# Altium schematic symbol library CMod5_1.SCHLIB: 236 symbols (part 5 of 5)
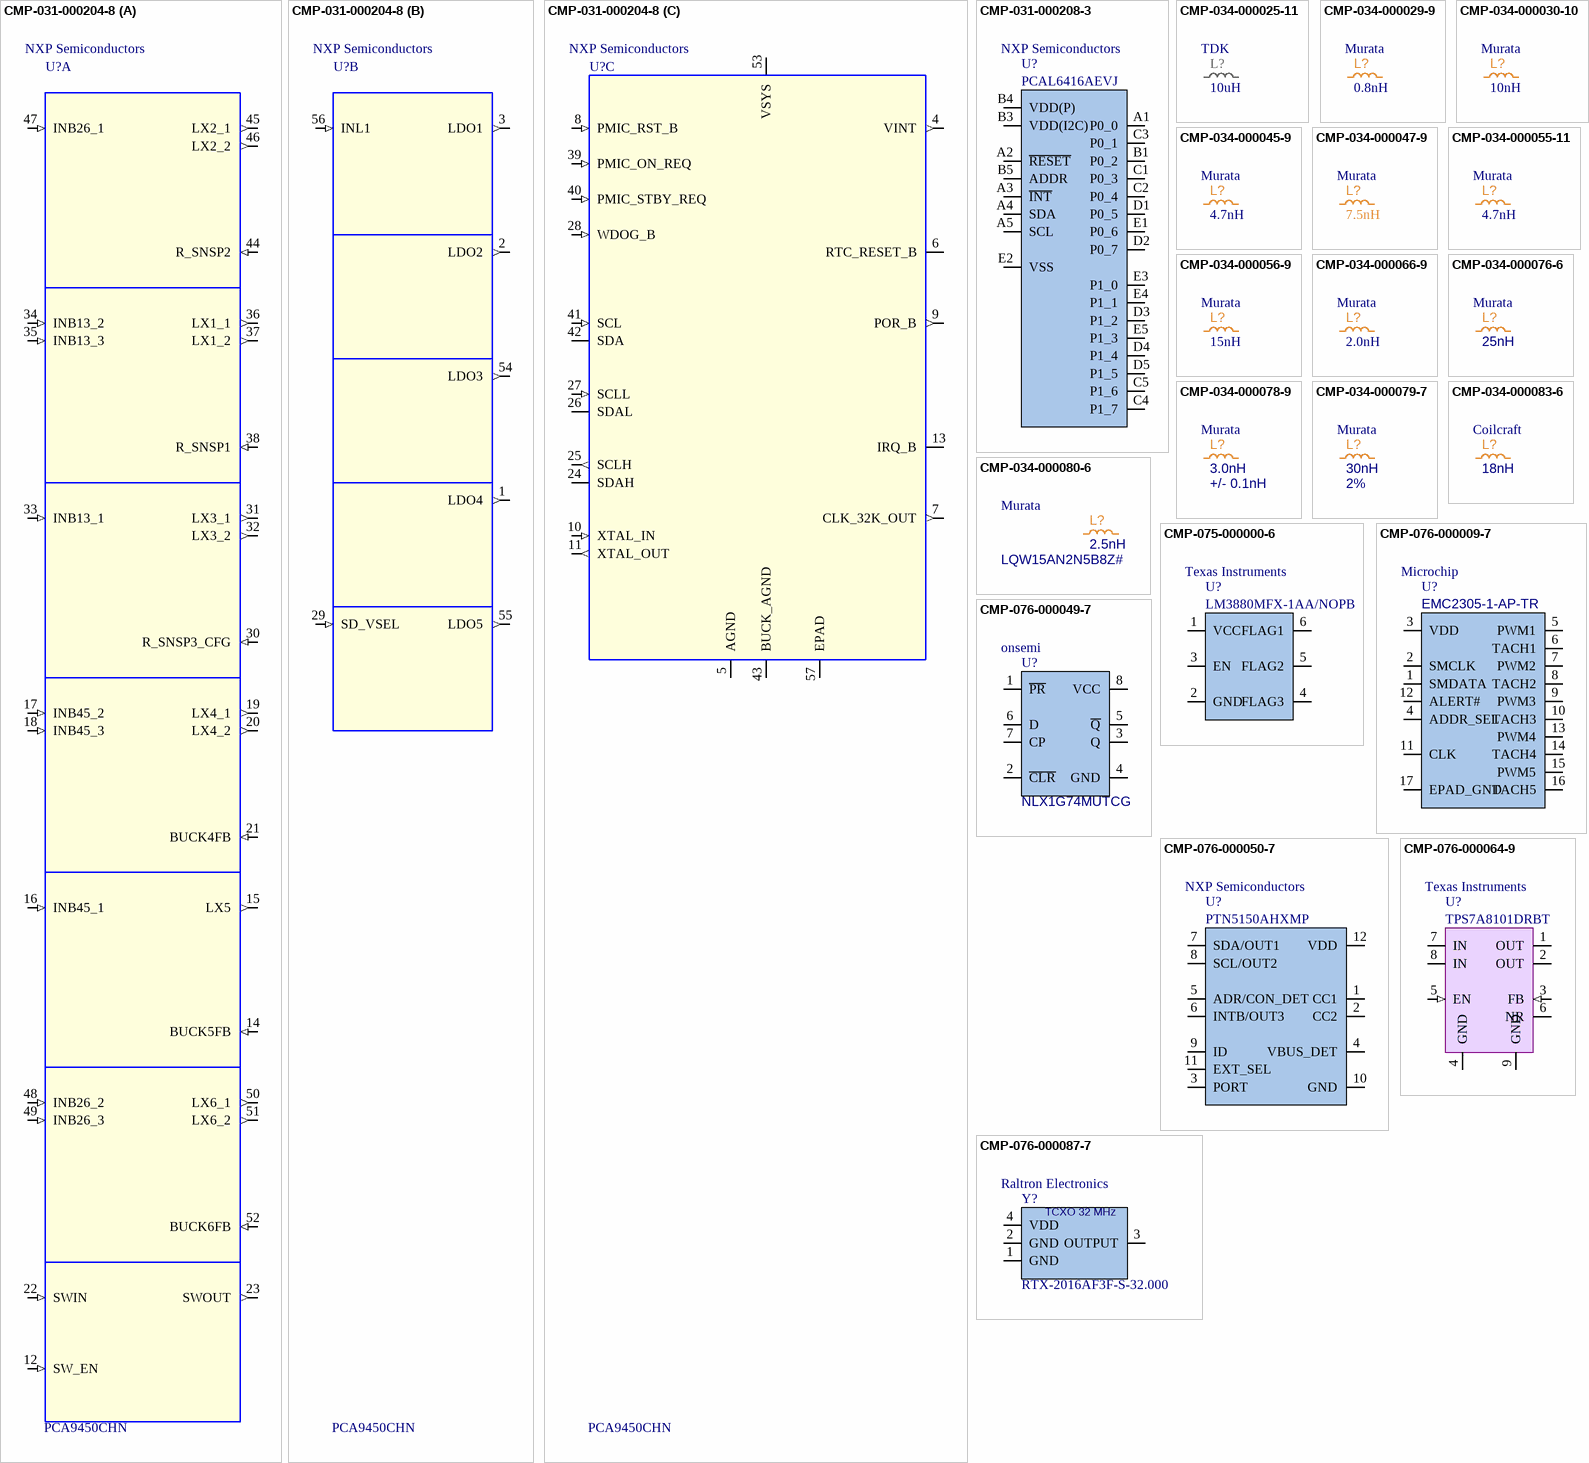
[diagram p16: symbols CMP-031-000204-8 to CMP-076-000087-7]

## CMP-034-000030-10
designator L?, comment value 10nH  Manufacturer: Murata  (hidden comment: IND_0201_10n_RF_MATCHING)
IND_RF_MATCHING; Part Number: LQP03TN10NH02; Manufacturer Part Number: LQP03TN10NH02D; Tolerance: +/- 3%; Remark: RF matching, use part number; HasBeenBuilt: TBD; System: RLC; Sort order: 206; Package: 0201; ComponentLink2Description: 2_Product page; ComponentLink3Description: 3_X-information; Creation date: 20200101; Source: RLC_UN1Q.SchLib; ComponentLink1Description: 1_Datasheet; Operating temperature range: -55°C ~ 125°C; ComponentLink4Description: 4_X-information; ClassName: SMALL; RoHS: RoHS3; Component Type: Inductor
footprint IND_0201_UN1Q (Chip Resistor, 0.6x0.3mm, IPC High Density)
pins: 1, 2

## CMP-034-000045-9
designator L?, comment value 4.7nH  Manufacturer: Murata  (hidden comment: IND_0201_4n7_RF_MATCHING)
IND_RF_MATCHING; Part Number: LQP03TN4N7J02; Manufacturer Part Number: LQP03TN4N7J02D; Tolerance: +/- 5%; Remark: RF matching, use part number; Sort order: 206; HasBeenBuilt: TBD; System: RLC; Package: 0201; Operating temperature range: -55°C ~ 125°C; ClassName: SMALL; ComponentLink1Description: 1_Datasheet; ComponentLink2Description: 2_Product page; Creation date: 20200101; ComponentLink3Description: 3_X-information; ComponentLink4Description: 4_X-information; RoHS: RoHS3; Source: RLC_UN1Q.SchLib; Component Type: Inductor
footprint IND_0201_UN1Q (Chip Resistor, 0.6x0.3mm, IPC High Density)
pins: 1, 2

## CMP-034-000047-9
designator L?, comment 7.5nH  Manufacturer: Murata
IND_RF_MATCHING; Part Number: LQP03TN7N5H02; Tolerance: +/- 5%; HasBeenBuilt: TBD; System: RLC; Remark: RF matching, use part number; Sort order: 206; Creation date: 20220613; ClassName: SMALL; ComponentLink4Description: 4_X-information; Package: 0201; ComponentLink2Description: 2_Product page; ComponentLink3Description: 3_X-information; RoHS: RoHS3; Source: RLC_UN1Q.SchLib; Operating temperature range: -55°C ~ 125°C; ComponentLink1Description: 1_Datasheet; Value: 7.5nH; Manufacturer Part Number: LQP03TN7N5H02; Component Type: Inductor
footprint IND_0201_UN1Q (Chip Resistor, 0.6x0.3mm, IPC High Density)
pins: 1, 2

## CMP-034-000055-11
designator L?, comment value 4.7nH  Manufacturer: Murata  (hidden comment: IND_0402_4n7_RF_MATCHING)
IND_RF_MATCHING; Part Number: LQP02TN4N7H02#; HasBeenBuilt: TBD; System: RLC; Remark: RF matching, use part number; Sort order: 206; Tolerance: +/- 3%; ComponentLink3Description: 3_X-information; Operating temperature range: -55 ... +125C; ComponentLink1Description: 1_Datasheet; Package: 0402; ComponentLink2Description: 2_Product page; ComponentLink4Description: 4_X-information; Source: RLC_UN1Q.SchLib; ClassName: SMALL; RoHS: RoHS3; Creation date: 20210913; Manufacturer Part Number: LQP02TN4N7H02#; Component Type: Inductor
footprint IND_0402_UN1Q (Chip Resistor, 1.0x0.5mm)
pins: 1, 2

## CMP-034-000056-9
designator L?, comment value 15nH  Manufacturer: Murata  (hidden comment: IND_0201_15n0_RF_MATCHING)
IND_RF_MATCHING; Part Number: LQP03TG15NH02; Manufacturer Part Number: LQP03TG15NH02D; Tolerance: +/- 3%; Remark: RF matching, use part number; Sort order: 206; HasBeenBuilt: TBD; System: RLC; Package: 0201; Operating temperature range: -55°C ~ 125°C; ClassName: SMALL; ComponentLink1Description: 1_Datasheet; ComponentLink2Description: 2_Product page; Creation date: 20200101; ComponentLink3Description: 3_X-information; ComponentLink4Description: 4_X-information; Source: RLC_UN1Q.SchLib; RoHS: RoHS3; Component Type: Inductor
footprint IND_0201_UN1Q (Chip Resistor, 0.6x0.3mm, IPC High Density)
pins: 1, 2

## CMP-034-000066-9
designator L?, comment value 2.0nH  Manufacturer: Murata  (hidden comment: IND_0201_2n0_HQ_RF_MATCHING)
IND_RF_MATCHING; Part Number: LQP03HQ2N0B02; Manufacturer Part Number: LQP03HQ2N0B02D; HasBeenBuilt: TBD; Remark: RF matching, use part number; Tolerance: +/- 0.1nH; Sort order: 206; System: RLC; Source: RLC_UN1Q.SchLib; Package: 0201; Creation date: 20200101; ComponentLink4Description: 4_X-information; ComponentLink1Description: 1_Datasheet; RoHS: RoHS3; ClassName: SMALL; Operating temperature range: -55 ... +125C; ComponentLink2Description: 2_Product page; ComponentLink3Description: 3_X-information; Component Type: Inductor
footprint IND_0201_UN1Q (Chip Resistor, 0.6x0.3mm, IPC High Density)
pins: 1, 2

## CMP-034-000076-6
designator L?, comment value 25nH  Manufacturer: Murata  (hidden comment: IND_0402_25n_RF_MATCHING)
IND_RF_MATCHING; Part Number: LQW15AN25NG8Z; Manufacturer Part Number: LQW15AN25NG8ZD; Tolerance: 2%; Remark: RF matching, use part number; System: RLC; Sort order: 206; Package: 0402; ComponentLink2Description: 2_Product page; ComponentLink3Description: 3_X-information; Creation date: 20240627; ComponentLink1Description: 1_Datasheet; ComponentLink1URL: ttps://www.murata.com/en-global/products/productdetail?partno=LQW15AN25NG8Z%23; Operating temperature range: -55 ... +125C; ClassName: SMALL; ComponentLink4Description: 4_X-information; RoHS: RoHS3; Component Type: Inductor
footprint IND_0402_UN1Q (Chip Resistor, 1.0x0.5mm)
pins: 1, 2

## CMP-034-000078-9
designator L?, comment value 3.0nH  Tolerance: +/- 0.1nH  Manufacturer: Murata  (hidden comment: IND_0402_3n0_RF_MATCHING)
IND_RF_MATCHING, WIREWOUND; Part Number: LQW15AN3N0G80; Manufacturer Part Number: LQW15AN3N0B8ZD; HasBeenBuilt: TBD; Sort order: 206; Remark: RF matching, use part number; System: RLC; ComponentLink3Description: 3_X-information; ComponentLink1URL: https://www.murata.com/en-global/products/productdetail?partno=LQW15AN3N0G80%23; Creation date: 20231024; Source: RLC_UN1Q.SchLib; ComponentLink1Description: 1_Datasheet; Package: 0402; ComponentLink2Description: 2_Product page; Dimensions WxLxH: 0.7 x 1.1 x 0.6mm; Operating temperature range: -55 ... +125C; ClassName: SMALL; ComponentLink4Description: 4_X-information; ECCN: EAR99; RoHS: RoHS3; Component Type: Inductor
footprint IND_0402_UN1Q (Chip Resistor, 1.0x0.5mm)
pins: 1, 2

## CMP-034-000079-7
designator L?, comment value 30nH  Tolerance: 2%  Manufacturer: Murata  (hidden comment: IND_0402_30n_RF_MATCHING)
IND_RF_MATCHING; Part Number: LQW15AN30NG8Z; Manufacturer Part Number: LQW15AN30NG8ZD; Sort order: 206; Remark: RF matching, use part number; System: RLC; ComponentLink3Description: 3_X-information; ComponentLink1URL: ttps://www.murata.com/en-global/products/productdetail?partno=LQW15AN25NG8Z%23; Creation date: 20240627; ComponentLink1Description: 1_Datasheet; Package: 0402; ComponentLink2Description: 2_Product page; Operating temperature range: -55 ... +125C; ClassName: SMALL; ComponentLink4Description: 4_X-information; RoHS: RoHS3; Component Type: Inductor
footprint IND_0402_UN1Q (Chip Resistor, 1.0x0.5mm)
pins: 1, 2

## CMP-034-000080-6
designator L?, comment value 2.5nH  Part Number: LQW15AN2N5B8Z#  Manufacturer: Murata  (hidden comment: IND_0402_2n5_RF_MATCHING)
IND_RF_MATCHING, WIREWOUND; Manufacturer Part Number: LQW15AN2N5B8ZD; Tolerance: +/- 0.1nH; Remark: RF matching, use part number; HasBeenBuilt: TBD; System: RLC; Sort order: 206; Package: 0402; ComponentLink2Description: 2_Product page; ComponentLink3Description: 3_X-information; Creation date: 20231024; Source: RLC_UN1Q.SchLib; ComponentLink1Description: 1_Datasheet; ComponentLink1URL: https://www.mouser.fi/datasheet/2/281/1/JELF243A_9138-1699493.pdf; Operating temperature range: -55 ... +125C; ClassName: SMALL; ComponentLink4Description: 4_X-information; RoHS: RoHS3; Component Type: Inductor
footprint IND_0402_UN1Q (Chip Resistor, 1.0x0.5mm)
pins: 1, 2

## CMP-034-000083-6
designator L?, comment value 18nH  Manufacturer: Coilcraft  (hidden comment: IND_0402_18n_RF_MATCHING_Coilcraft)
IND_RF_MATCHING; Part Number: 0402DC-18NXGRW; Tolerance: 2%; Remark: RF matching, use part number; System: RLC; Sort order: 206; Package: 0402; ComponentLink2Description: 2_Product page; ComponentLink3Description: 3_X-information; Creation date: 20240830; ComponentLink1Description: 1_Datasheet; ComponentLink1URL: https://www.coilcraft.com/getmedia/b3553702-9a56-4386-b513-fcddf8709240/0402dc.pdf; ComponentLink2URL: https://www.coilcraft.com/en-us/products/rf/ceramic-core-chip-inductors/0402-(1005)/0402dc/0402dc-18n/; Operating temperature range: -55 ... +125C; ClassName: SMALL; ComponentLink4Description: 4_X-information; RoHS: RoHS3; Manufacturer Part Number: 0402DC-18NXGRW; Component Type: Inductor
footprint IND_0402_UN1Q (Chip Resistor, 1.0x0.5mm)
pins: 1, 2

## CMP-075-000000-6
designator U?, comment Part Number: LM3880MFX-1AA/NOPB  Manufacturer: Texas Instruments  (hidden comment: LM3880-Q1)
Power Supply Sequencer; System: IC; HasBeenBuilt: SALUKI_V2; Sort order: 459; Creation date: 20200101; ComponentLink3Description: 3_X-information; Source: IC_UN1Q.SchLib; ComponentLink2URL: https://www.ti.com/product/LM3880-Q1; Design Item ID: LM3880-Q1; ComponentLink1URL: https://www.ti.com/lit/ds/symlink/lm3880-q1.pdf; Package: SOT23-6; ComponentLink4Description: 4_X-information; ComponentLink1Description: 1_Datasheet; ComponentLink2Description: 2_Product page; Operating temperature range: -40 .... +125 °C; Dimensions WxLxH: 2.9x1.6x1.45 mm; Manufacturer Part Number: LM3880MFX-1AA/NOPB; Component Type: Power Supply
footprint SOT23_6_DVB006A_TI (SOT23 6pin)
pins: 1 VCC, 2 GND, 3 EN, 4 FLAG3, 5 FLAG2, 6 FLAG1

## CMP-076-000009-7
designator U?, comment Part Number: EMC2305-1-AP-TR  Manufacturer: Microchip  (hidden comment: EMC2305)
Multiple RPM-Based PWM Fan Controller; HasBeenBuilt: SleeveIO_01; Sort order: 501; System: IC; ClassName: BIG; ComponentLink1Description: 1_Datasheet; ComponentLink1URL: https://ww1.microchip.com/downloads/en/DeviceDoc/EMC2301-2-3-5-Data-Sheet-DS20006532A.pdf; ComponentLink2Description: 2_Product page; ComponentLink2URL: https://www.microchip.com/en-us/product/EMC2305; ComponentLink3Description: 3_X-information; ComponentLink4Description: 4_X-information; Creation date: 20211208; Dimensions WxLxH: 4.0x4.0x0.9; Operating temperature range: -40 ... +125 °C; Package: QFN16; Source: IC_UN1Q.SchLib; Design Item ID: EMC2305; Manufacturer Part Number: EMC2305-1-AP-TR; Component Type: Amplifier & Driver
footprint EMC2305_QFN16P80_400X400X90 (QFPN16 pitc 0.8)
pins: 1 SMDATA, 2 SMCLK, 3 VDD, 4 ADDR_SEL, 5 PWM1, 6 TACH1, 7 PWM2, 8 TACH2, 9 PWM3, 10 TACH3, 11 CLK, 12 ALERT#, 13 PWM4, 14 TACH4, 15 PWM5, 16 TACH5, 17 EPAD_GND

## CMP-076-000049-7
designator U?, comment Manufacturer: onsemi  (hidden comment: NLX1G74MUTCG)
Single D Flip-Flop; Manufacturer: ON Semiconductor; Sort order: 501; System: IC; ComponentLink1Description: 1_Datasheet; ComponentLink1URL: https://www.onsemi.com/pdf/datasheet/nlx1g74-d.pdf; ComponentLink2Description: 2_Product page; ComponentLink2URL: https://www.onsemi.com/products/timing-logic-memory/standard-logic/d-flip-flops-and-jk-flip-flops/nlx1g74; ComponentLink3Description: 3_X-information; ComponentLink3URL: https://www.onsemi.com/pub/collateral/523an.pdf; ComponentLink4Description: 4_X-information; Creation date: 20211116; Dimensions WxLxH: 1.6x1.6x0.6; Operating temperature range: -40 .... +85 °C; Package: UQFN8; Part Number: NLX1G74MUTCG; Source: IC_UN1Q.SchLib; Design Item ID: NLX1G74MUTCG; ECCN: EAR99; RoHS: RoHS3; Manufacturer Part Number: NLX1G74MUTCG; Component Type: Logic
footprint UQFN8_NLX1G74_ONSEMI (UQFN8)
pins: 1 ~{PR}, 2 ~{CLR}, 3 Q, 4 GND, 5 ~{Q}, 6 D, 7 CP, 8 VCC

## CMP-076-000050-7
designator U?, comment Manufacturer: NXP Semiconductors  (hidden comment: PTN5150AHXMP)
CC logic for USB Type-C applications; Manufacturer: NXP; Sort order: 501; System: IC; HasBeenBuilt: SALUKI_V2; Operating temperature range: -40C ... +85C; Design Item ID: PTN5150AHXMP; ComponentLink3Description: 3_X-information; ComponentLink1Description: 1_Datasheet; Package: X2QFN12; Source: IC_UN1Q.SchLib; ComponentLink4Description: 4_X-information; Dimensions WxLxH: 1.6x1.6x0.4mm; ComponentLink1URL: https://www.nxp.com/docs/en/data-sheet/PTN5150A.pdf; ComponentLink2Description: 2_Product page; ECCN: EAR99; RoHS: RoHS3; ComponentLink2URL: https://www.nxp.com/part/PTN5150AHX#/; Creation date: 20220314; Part Number: PTN5150AHXMP; Manufacturer Part Number: PTN5150AHXMP; Component Type: Logic
footprint X2QFN12_NXP (X2QFN12 NXP)
pins: 1 CC1, 2 CC2, 3 PORT, 4 VBUS_DET, 5 ADR/CON_DET, 6 INTB/OUT3, 7 SDA/OUT1, 8 SCL/OUT2, 9 ID, 10 GND, 11 EXT_SEL, 12 VDD

## CMP-076-000064-9
designator U?, comment TPS7A8101DRBT  Manufacturer: Texas Instruments
LDO, 1 A, Adjustable 0.8 to 6 V; System: IC; HasBeenBuilt: False; Sort order: 451; ComponentLink4Description: 4_X-information; ComponentLink2URL: https://www.ti.com/product/TPS7A8101?keyMatch=TPS7A8101DRBT&tisearch=universal_search&usecase=OPN-ALT; Operating temperature range: -40 to 125 degC; ComponentLink1URL: https://www.ti.com/lit/ds/symlink/tps7a8101.pdf?ts=1761025302157&ref_url=https%253A%252F%252Fapp.ultralibrarian.com%252F; Design Item ID: TPS7A8101DRBT; ComponentLink1Description: 1_Datasheet; Package: SON8; Part Number: TPS7A8101DRBT; ComponentLink3Description: 3_X-information; ClassName: BIG; Source: IC_UN1Q.SchLib; Creation date: 20191231; ComponentLink2Description: 2_Product page; Manufacturer Part Number: TPS7A8101DRBT; Component Type: Power Supply
footprint TI-DRB8-1750X1500TP_V (SON, 8-Leads, Body 3x3mm, Pitch 0.65mm, Thermal Pad 1.50 x 3.8mm)
pins: 1 OUT (power) "Regulator output. A 4.7 uF or larger capacitor of any type is required for stability.", 2 OUT (power) "Regulator output. A 4.7 uF or larger capacitor of any type is required for stability.", 3 FB (in) "Adjustable voltage version only. This pin is the input to the control loop error amplifier and is used to set the output voltage of the device.", 4 GND (power) "Ground.", 5 EN (in) "Driving the enable pin (EN) high turns on the regulator. Driving this pin low puts the regulator into shutdown mode. Refer to Shutdown in the Application Information section for more details. EN must not be left floating and (See Datasheet)", 6 NR "Connect an external capacitor between this pin and ground to reduce output noise to very low levels. Also, the capacitor slows down the VOUT ramp (RC softstart).", 7 IN (power) "Unregulated input supply.", 8 IN (power) "Unregulated input supply.", 9 GND (power) "Ground."

## CMP-076-000087-7
designator Y?, comment Part Number: RTX-2016AF3F-S-32.000  Manufacturer: Raltron Electronics  (hidden comment: TCXO_32MHz_2016)
TCXO 32MHz 2016 package.; Manufacturer: Raltron; Manufacturer Part Number: RTX-2016AF3F-S-32.000-TR; System: IC; Sort order: 455; ComponentLink2Description: 2_Product page; Dimensions WxLxH: 2.1 x 1.7 x 0.8mm; Operating temperature range: -30 .... +85 °C; ComponentLink4Description: 4_X-information; ComponentLink3Description: 3_X-information; ComponentLink1URL: https://www.raltron.com/webproducts/specs/TCXO/RTX-2016AF3F-S-32.000-TR.pdf; ComponentLink1Description: 1_Datasheet; Source: IC_UN1Q.SchLib; Design Item ID: TCXO_32MHz_2016; Creation date: 20211125; Component Type: Timing
footprint TCXO_RALTRON_2016
pins: 1 GND, 2 GND, 3 OUTPUT, 4 VDD
text: TCXO 32 MHz